# EAGLE library part UJ2-ADH-1-TH (library UJ2-ADH-1-TH)
Standard A Type 8 Pin Horizontal 3 µin Plating Through Hole USB Jack 2.0 Check prices <https://pricing.snapeda.com/parts/UJ2-ADH-1-TH/CUI%20Devices/view-part?ref=eda>
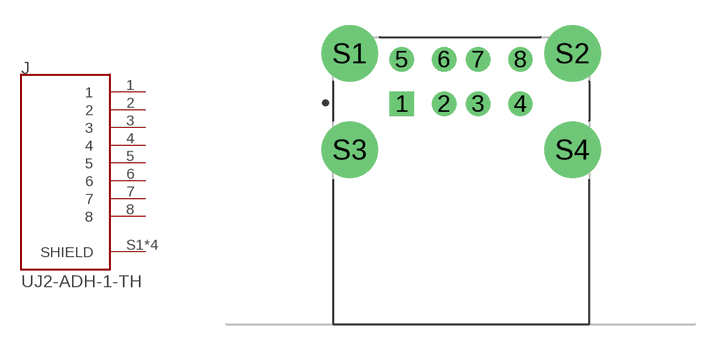
[diagram p0: symbol with the pads of CUI_UJ2-ADH-1-TH; footprint CUI_UJ2-ADH-1-TH]

Designator prefix J

## UJ2-ADH-1-TH (MANUFACTURER: CUI Devices; STANDARD: Manufacturer Recommendations)  [CUI_UJ2-ADH-1-TH]
1  1  pas
2  2  pas
3  3  pas
4  4  pas
5  5  pas
6  6  pas
7  7  pas
8  8  pas
S1  SHIELD  pas
S2  SHIELD  pas
S3  SHIELD  pas
S4  SHIELD  pas

## Footprint CUI_UJ2-ADH-1-TH (pad centres in mm)
drill 0.92 square: 1 0,0
drill 0.92: 2 2.5,0; 3 4.5,0; 4 7,0; 5 0,2.62; 6 2.5,2.62; 7 4.5,2.62; 8 7,2.62
drill 2.3: S1 -3.07,2.97; S2 10.07,2.97; S3 -3.07,-2.71; S4 10.07,-2.71